# Altium schematic symbol library Wireless.SchLib: 12 symbols
Pins are listed as number, name and electrical type; pins without a type are passive.

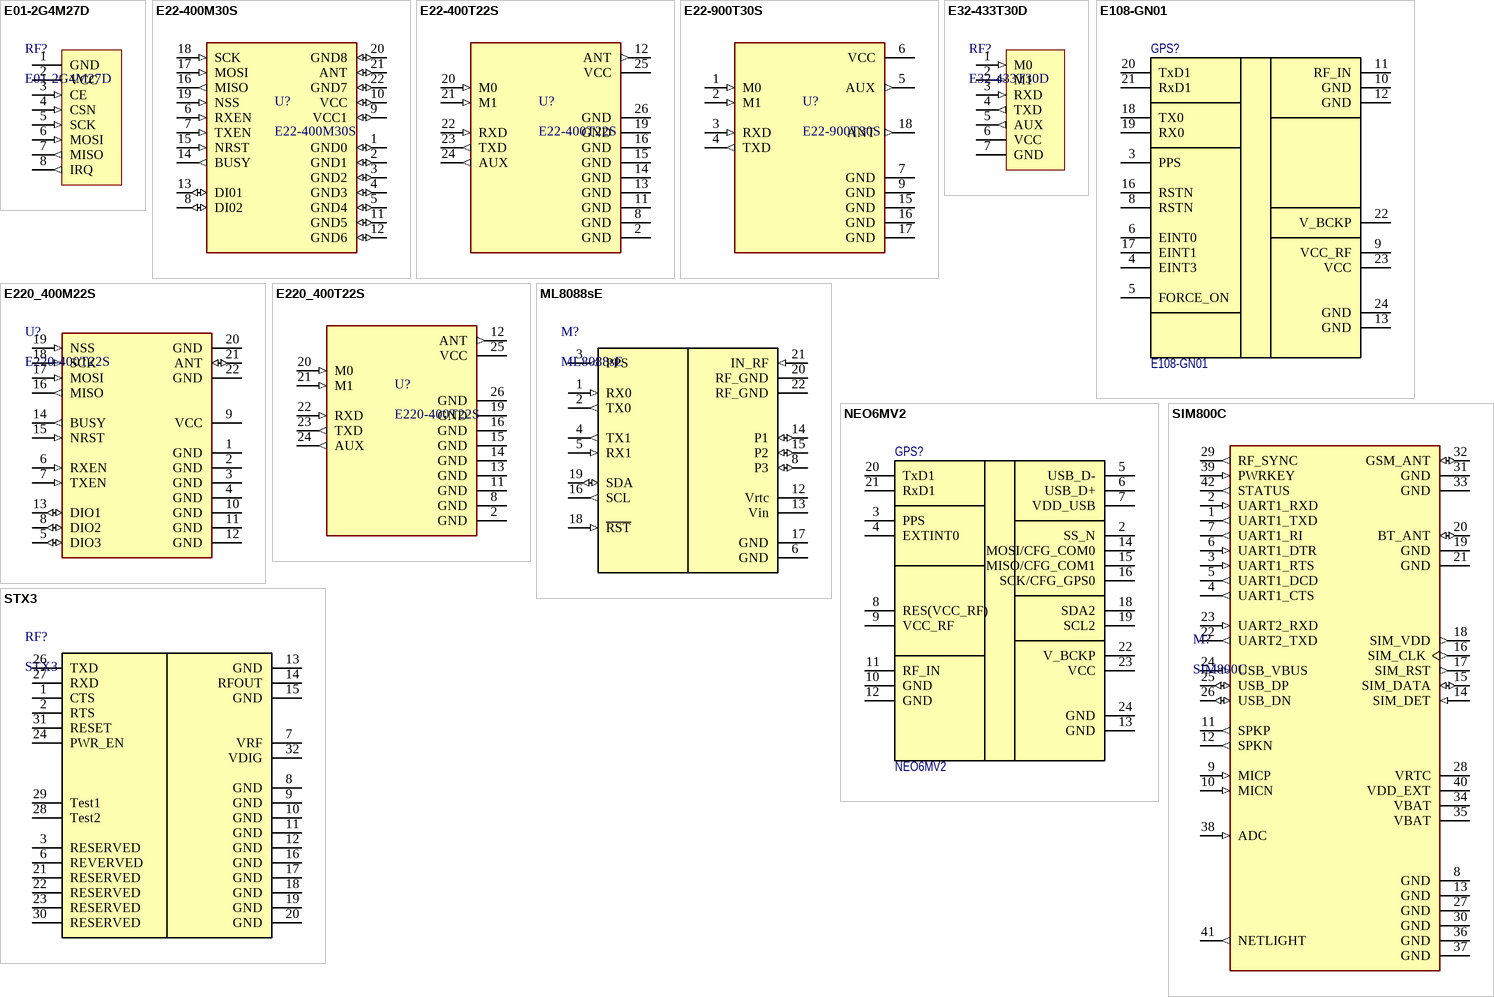
[diagram p0: symbols E01-2G4M27D to STX3]

## E01-2G4M27D
designator RF?
GFSK RF; Order: *
footprint MODULE_E01-2G4M27D
pins: 1 GND (power), 2 VCC (power), 3 CE (in), 4 CSN (in), 5 SCK (in), 6 MOSI (in), 7 MISO (out), 8 IRQ (out)

## E22-400M30S
designator U?
LORA RF
footprint E22-400M30S
pins: 1 GND0 (io), 2 GND1 (io), 3 GND2 (io), 4 GND3 (io), 5 GND4 (io), 6 RXEN (in), 7 TXEN (in), 8 DI02 (io), 9 VCC1 (io), 10 VCC (io), 11 GND5 (io), 12 GND6 (io), 13 DI01 (io), 14 BUSY (out), 15 NRST (in), 16 MISO (out), 17 MOSI (in), 18 SCK (in), 19 NSS (in), 20 GND8 (io), 21 ANT (io), 22 GND7 (io)

## E22-400T22S
designator U?
LORA RF
footprint E220-400T22S
pins: 2 GND (power), 8 GND (power), 11 GND (power), 12 ANT (out), 13 GND (power), 14 GND (power), 15 GND (power), 16 GND (power), 19 GND (power), 20 M0 (in), 21 M1 (in), 22 RXD (in), 23 TXD (out), 24 AUX (out), 25 VCC (power), 26 GND (power)

## E22-900T30S
designator U?
LORA RF
footprint E22-900T30S
pins: 1 M0 (in), 2 M1 (in), 3 RXD (in), 4 TXD (out), 5 AUX (out), 6 VCC (power), 7 GND (power), 9 GND (power), 15 GND (power), 16 GND (power), 17 GND (power), 18 ANT (out)

## E32-433T30D
designator RF?
LORA RF; Order: *
footprint MODULE_E32-433T30D
pins: 1 M0 (in), 2 M1 (in), 3 RXD (in), 4 TXD (out), 5 AUX (out), 6 VCC (power), 7 GND (power)

## E108-GN01
designator GPS?
GNSS 18km
footprint NEO-6M
pins: 3 PPS, 4 EINT3, 5 FORCE_ON, 6 EINT0, 8 RSTN, 9 VCC_RF, 10 GND, 11 RF_IN, 12 GND, 13 GND, 16 RSTN, 17 EINT1, 18 TX0, 19 RX0, 20 TxD1, 21 RxD1, 22 V_BCKP, 23 VCC, 24 GND

## E220_400M22S
designator U?, comment E220-400T22S
LORA RF
footprint E220-400M22S
pins: 1 GND (power), 2 GND (power), 3 GND (power), 4 GND (power), 5 DIO3 (io), 6 RXEN (in), 7 TXEN (in), 8 DIO2 (io), 9 VCC (power), 10 GND (power), 11 GND (power), 12 GND (power), 13 DIO1 (io), 14 BUSY (out), 15 NRST (in), 16 MISO (out), 17 MOSI (in), 18 SCK (in), 19 NSS (in), 20 GND (power), 21 ANT (io), 22 GND (power)

## E220_400T22S
designator U?, comment E220-400T22S
LORA RF
footprint E220-400T22S
pins: 2 GND (power), 8 GND (power), 11 GND (power), 12 ANT (out), 13 GND (power), 14 GND (power), 15 GND (power), 16 GND (power), 19 GND (power), 20 M0 (in), 21 M1 (in), 22 RXD (in), 23 TXD (out), 24 AUX (out), 25 VCC (power), 26 GND (power)

## ML8088sE
designator M?
GNSS 50km; Order: ML8088sl
footprint MODULE_ML8088S
pins: 1 RX0 (in), 2 TX0 (out), 3 PPS (out), 4 TX1 (out), 5 RX1 (in), 6 GND (power), 8 P3 (io), 12 Vrtc (power), 13 Vin (power), 14 P1 (io), 15 P2 (io), 16 SCL (out), 17 GND (power), 18 ~{RST} (in), 19 SDA (io), 20 RF_GND (power), 21 IN_RF (in), 22 RF_GND (power)

## NEO6MV2
designator GPS?
GNSS
footprint NEO-6M
pins: 2 SS_N, 3 PPS, 4 EXTINT0, 5 USB_D-, 6 USB_D+, 7 VDD_USB, 8 RES(VCC_RF), 9 VCC_RF, 10 GND, 11 RF_IN, 12 GND, 13 GND, 14 MOSI/CFG_COM0, 15 MISO/CFG_COM1, 16 SCK/CFG_GPS0, 18 SDA2, 19 SCL2, 20 TxD1, 21 RxD1, 22 V_BCKP, 23 VCC, 24 GND

## SIM800C
designator M?
non-BGA GSM module; IsSMT: NoSMT
footprint SIM800C
pins: 1 UART1_TXD (out), 2 UART1_RXD (in), 3 UART1_RTS (in), 4 UART1_CTS (out), 5 UART1_DCD (out), 6 UART1_DTR (in), 7 UART1_RI (out), 8 GND (power), 9 MICP (in), 10 MICN (in), 11 SPKP (out), 12 SPKN (out), 13 GND (power), 14 SIM_DET (in), 15 SIM_DATA (io), 16 SIM_CLK (out), 17 SIM_RST (out), 18 SIM_VDD (out), 19 GND (power), 20 BT_ANT (io), 21 GND (power), 22 UART2_TXD (out), 23 UART2_RXD (in), 24 USB_VBUS (in), 25 USB_DP (io), 26 USB_DN (io), 27 GND (power), 28 VRTC (power), 29 RF_SYNC (out), 30 GND (power), 31 GND (power), 32 GSM_ANT (io), 33 GND (power), 34 VBAT (power), 35 VBAT (power), 36 GND (power), 37 GND (power), 38 ADC (in), 39 PWRKEY (in), 40 VDD_EXT (power), 41 NETLIGHT (out), 42 STATUS (out)

## STX3
designator RF?
Globalstar satellite comm module
footprint STX3
pins: 1 CTS, 2 RTS, 3 RESERVED, 6 REVERVED, 7 VRF, 8 GND, 9 GND, 10 GND, 11 GND, 12 GND, 13 GND, 14 RFOUT, 15 GND, 16 GND, 17 GND, 18 GND, 19 GND, 20 GND, 21 RESERVED, 22 RESERVED, 23 RESERVED, 24 PWR_EN, 26 TXD, 27 RXD, 28 Test2, 29 Test1, 30 RESERVED, 31 RESET, 32 VDIG